# Altium schematic symbol library ADP3309.Schlib: 1 symbol
Pins are listed as number, name and electrical type; pins without a type are passive.

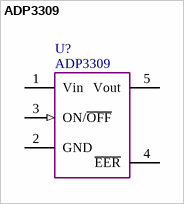
[diagram p0: symbol ADP3309]

## ADP3309
designator U?
pins: 1 Vin, 2 GND, 3 ON/~{OFF} (in), 4 ~{EER}, 5 Vout